# Altium footprint library RESISTOR.PcbLib: 31 footprints (part 2 of 2)
Each footprint in its own frame and in the unit in brackets; x right, y up, seen from the top. Pads: shape width x height; smd on the part's side, far side on the other; paste and mask are expansions set on the pad; w line width, h text height; cw(c..) or ccw(c..) is an arc to the next point about the centre after c.
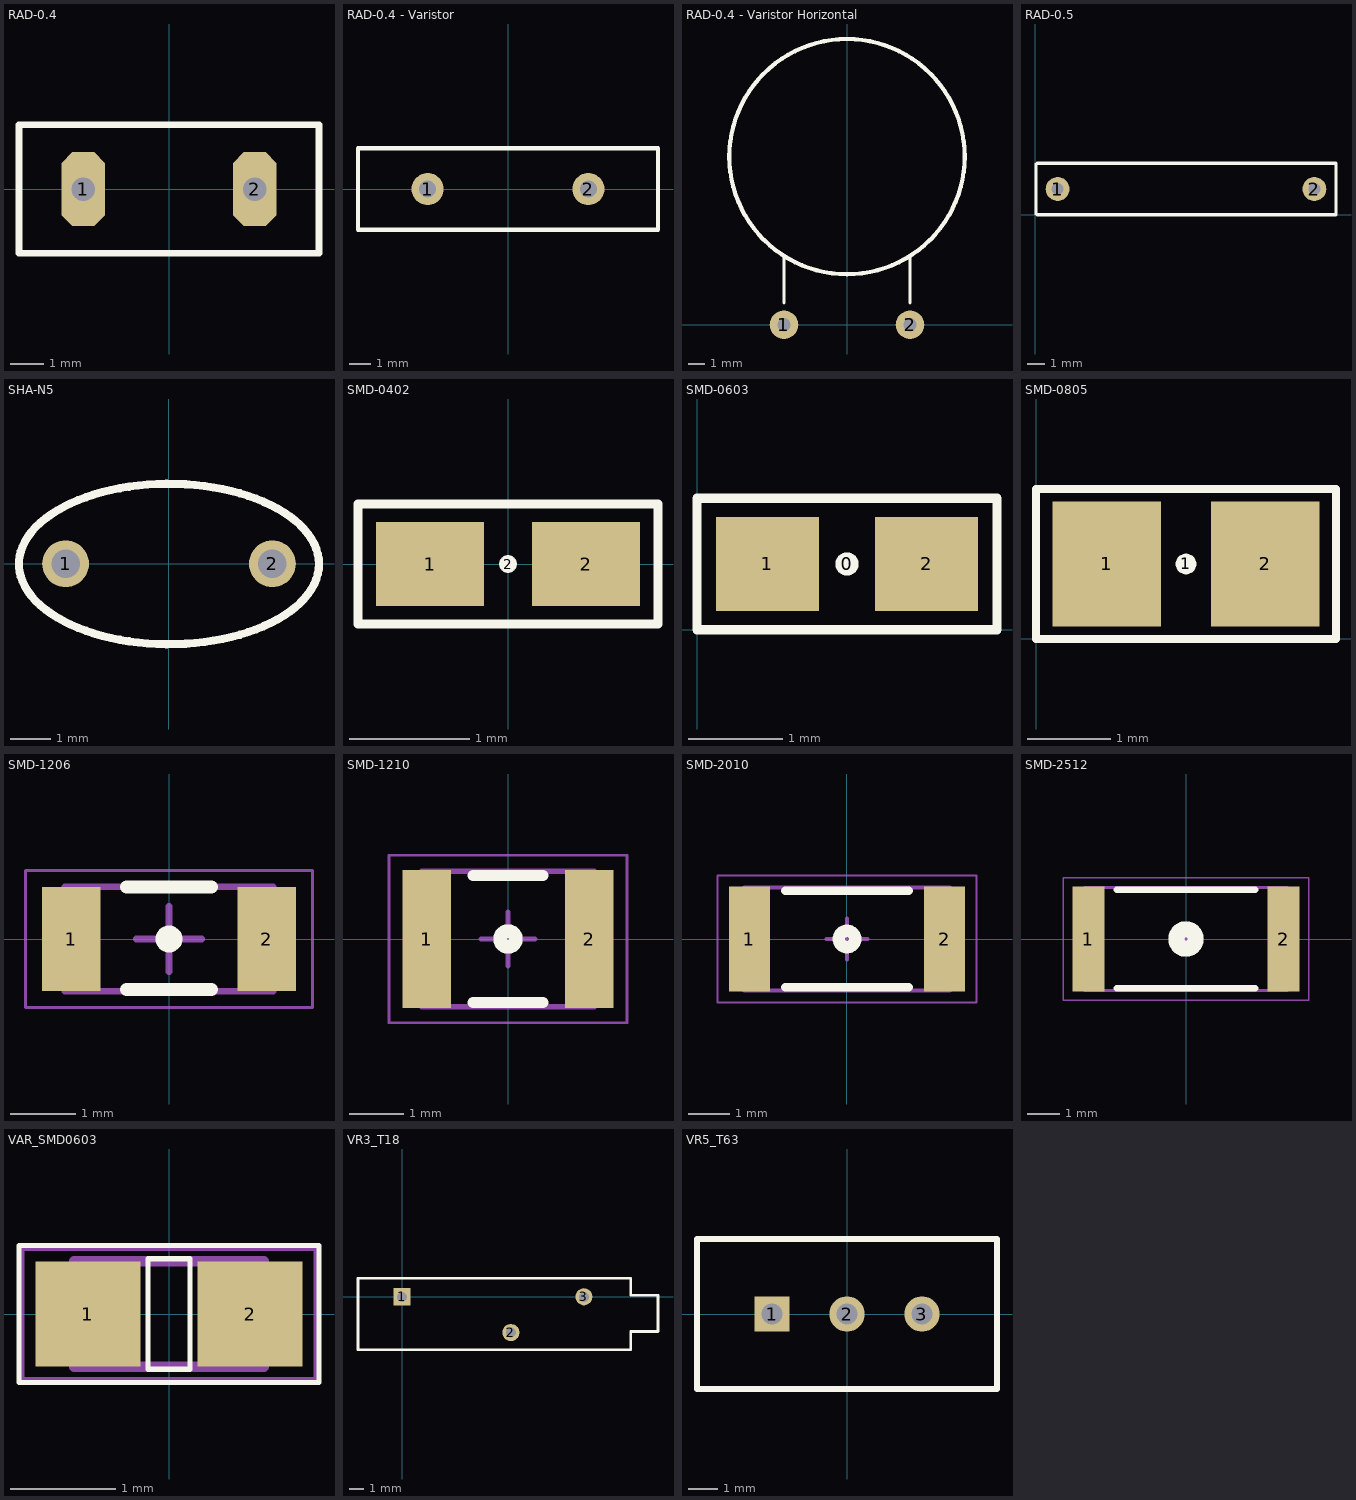
[diagram p1: the footprints below, top view; thin cyan lines are the x and y axes]

## RAD-0.4 [mm]
pads (2):
  oct 1.3x2.2 hole 0.7: 1(-2.54,0) 2(2.54,0)
Top Overlay:
  lines w0.2: -4.445,1.905 -4.445,-1.9 4.445,-1.9 4.445,1.905 -4.44,1.905

## RAD-0.4 - Varistor [mm]
pads (2):
  round 1.5 hole 0.8: 1(-3.75,0) 2(3.75,0)
Top Overlay:
  lines w0.2: -7,-1.9 -7,1.905 7,1.905 7,-1.9 -7,-1.9

## RAD-0.4 - Varistor Horizontal [mm]
pads (2):
  round 1.7 hole 0.8: 1(-3.75,0) 2(3.75,0)
Top Overlay:
  circle w0.254: c0,10 r7
  lines w0.203: -3.75,1.3 -3.75,4 ; 3.75,1.3 3.75,4

## RAD-0.5 [mm]
pads (2):
  round 1.4 hole 0.7: 1(1.3,1.5) 2(16.3,1.5)
Top Overlay:
  lines w0.2: 0.035,0.065 0.035,2.935 0.105,3.005 17.565,3.005 17.565,-0.005 0.105,-0.005 0.035,0.065

## SHA-N5 [mm] "Capacitor, Radial, Tantalum, Non-Polarised; Body 7.37 x 3.94 x 6.86 mm (WxTxH max); Pin Spacing 5.08 mm (typ)"
height 6.86
pads (2):
  round 1.15 hole 0.7: 1(-2.54,0) 2(2.54,0)
Top Overlay:
  lines w0.2: -3.684,-0.068 -3.684,0.057 -3.669,0.181 -3.639,0.305 -3.595,0.428 -3.536,0.549 -3.463,0.668 -3.377,0.784 -3.276,0.897 -3.162,1.006 -3.036,1.111 -2.897,1.212 -2.747,1.308 -2.586,1.398 -2.414,1.483 -2.232,1.562 -2.042,1.634 -1.843,1.7 -1.637,1.759 -1.424,1.811 -1.206,1.856 -0.983,1.893 -0.755,1.922 -0.525,1.944 -0.293,1.958 -0.059,1.964 0.175,1.962 0.408,1.952 0.639,1.934 0.868,1.909 1.094,1.875 1.314,1.834 1.53,1.786 1.74,1.731 1.942,1.668 2.137,1.599 2.323,1.523 2.5,1.441 2.666,1.354 2.822,1.26 2.967,1.162 3.099,1.059 3.219,0.952 3.327,0.841 3.42,0.726 3.5,0.609 3.566,0.489 3.618,0.367 3.655,0.244 3.677,0.119 3.684,-0.006 3.677,-0.131 3.655,-0.255 3.618,-0.379 3.566,-0.501 3.5,-0.621 3.42,-0.738 3.327,-0.853 3.219,-0.964 3.099,-1.071 2.967,-1.174 2.822,-1.272 2.666,-1.365 2.5,-1.453 2.323,-1.535 2.137,-1.611 1.942,-1.68 1.74,-1.742 1.53,-1.798 1.314,-1.846 1.094,-1.887 0.868,-1.92 0.639,-1.946 0.408,-1.964 0.175,-1.974 -0.059,-1.976 -0.293,-1.97 -0.525,-1.956 -0.755,-1.934 -0.983,-1.905 -1.206,-1.868 -1.424,-1.823 -1.637,-1.771 -1.843,-1.712 -2.042,-1.646 -2.232,-1.574 -2.414,-1.495 -2.586,-1.41 -2.747,-1.319 -2.897,-1.224 -3.036,-1.123 -3.162,-1.018 -3.276,-0.909 -3.377,-0.796 -3.463,-0.68 -3.536,-0.561 -3.595,-0.44 -3.639,-0.317 -3.669,-0.193 -3.684,-0.068

## SMD-0402 [mm] "Chip Resistor; Body 1 x 0.5 mm (LxW typ)"
height 0.4
pads (3):
  rect 0.9x0.7 smd: 1(-0.65,0) 2(0.65,0)
  round 0.15 on Top Overlay: 2(0,0)
Top Overlay:
  lines w0.075: -1.25,-0.5 1.25,-0.5 1.25,0.5 -1.25,0.5 -1.25,-0.5
3D body "User Library-CR1005-0402.STEP": height 0.35, standoff 0, extent -0.5,-0.25 0.5,0.25

## SMD-0603 [mm] "Chip Resistor; Body 1.6 x 0.8 mm (LxW typ)"
height 0.55
pads (3):
  round 0.25 on Top Overlay: 0(1.6,0.7)
  rect 1.1x1 smd: 1(0.75,0.7) 2(2.45,0.7)
Top Overlay:
  lines w0.1: 0,0 3.2,0 3.2,1.4 0,1.4 0,0
3D body "User Library-CR1608-0603.STEP": height 0.45, standoff 0, extent 0.825,0.3 2.425,1.1

## SMD-0805 [mm] "Chip Resistor; Body 2 x 1.3 mm (LxW typ)"
height 0.6
pads (3):
  rect 1.3x1.5 smd: 1(0.85,0.9) 2(2.75,0.9)
  round 0.25 on Top Overlay: 1(1.8,0.9)
Top Overlay:
  lines w0.1: 0,0 0,1.8 3.6,1.8 3.6,0 0,0
3D body "User Library-CR2012-0805.STEP": height 0.6, standoff 0, extent 0.825,0.25 2.825,1.5

## SMD-1206 [mm] "Chip Resistor, 2-Leads, Body 3,15x1,55mm, IPC Medium Density"
height 0.55
pads (2):
  rect 0.9x1.6 smd: 1(-1.5,0) 2(1.5,0)
Top Overlay:
  circle w0.254: c0,0 r0.079
  lines w0.2: -0.65,-0.775 0.65,-0.775 ; -0.65,0.8 0.65,0.8
Mechanical 13:
  lines w0.1: -1.6,-0.8 -1.6,0.8 1.6,0.8 1.6,-0.8 -1.6,-0.8
Mechanical 15:
  lines w0.05: -2.2,-1.05 -2.2,1.05 2.2,1.05 2.2,-1.05 -2.2,-1.05
  lines w0.1: -0.5,0 0.5,0 ; 0,-0.5 0,0.5
3D body "RES1206.step": height 0.55, standoff 0, extent -1.6,-0.8 1.6,0.8

## SMD-1210 [mm] "Chip Resistor, 2-Leads, Body 3,15x2,50mm, IPC Medium Density"
height 0.55
pads (2):
  rect 0.9x2.55 smd: 1(-1.5,0) 2(1.5,0)
Top Overlay:
  circle w0.254: c0,0 r0.146
  lines w0.2: -0.65,-1.175 0.65,-1.175 ; -0.65,1.175 0.65,1.175
Mechanical 13:
  lines w0.1: -1.6,-1.25 1.6,-1.25 1.6,1.25 -1.6,1.25 -1.6,-1.25
Mechanical 15:
  lines w0.05: -2.2,-1.55 2.2,-1.55 2.2,1.55 -2.2,1.55 -2.2,-1.55
  lines w0.1: -0.5,0 0.5,0 ; 0,-0.5 0,0.5
3D body "SMD-1210.step": height 0.55, standoff 0, extent -1.6,-1.25 1.6,1.25

## SMD-2010 [mm] "Chip Resistor, 2-Leads, Body 5,00x2,50mm, IPC Medium Density"
height 0.55
pads (2):
  rect 1x2.55 smd: 1(-2.375,0) 2(2.375,0)
Top Overlay:
  circle w0.3: c0,0 r0.2
  lines w0.2: -1.5,-1.175 1.5,-1.175 ; -1.5,1.175 1.5,1.175
Mechanical 13:
  lines w0.1: -2.5,-1.25 -2.5,1.25 2.5,1.25 2.5,-1.25 -2.5,-1.25
Mechanical 15:
  lines w0.05: -3.15,-1.55 -3.15,1.55 3.15,1.55 3.15,-1.55 -3.15,-1.55
  lines w0.1: -0.5,0 0.5,0 ; 0,-0.5 0,0.5
3D body "SMD-2010.step": height 0.55, standoff 0, extent -2.5,-1.25 2.5,1.25

## SMD-2512 [mm] "Chip Resistor, 2-Leads, Body 6,30x3,20mm, IPC Medium Density"
height 0.55
pads (2):
  rect 1x3.25 smd: 1(-3.025,0) 2(3.025,0)
Top Overlay:
  circle w0.5: c0,0 r0.3
  lines w0.2: -2.15,-1.525 2.15,-1.525 ; -2.15,1.525 2.15,1.525
Mechanical 13:
  lines w0.1: -3.15,-1.6 3.15,-1.6 3.15,1.6 -3.15,1.6 -3.15,-1.6
Mechanical 15:
  lines w0.05: -3.8,-1.9 3.8,-1.9 3.8,1.9 -3.8,1.9 -3.8,-1.9
  lines w0.1: -0.5,0 0.5,0 ; 0,-0.5 0,0.5
3D body "SMD-2512.step": height 0.55, standoff 0, extent -3.15,-1.6 3.15,1.6

## VAR_SMD0603 [mm] "VARISTOR SMD, 2-Leads, Body 1,60x0,80mm, IPC Medium Density"
height 0.45
pads (2):
  rect 1x1 smd: 1(-0.77,0) 2(0.77,0)
Top Overlay:
  lines w0.05: -1.425,-0.65 1.425,-0.65 1.425,0.65 -1.425,0.65 -1.425,-0.65 ; -0.2,-0.525 -0.2,0.525 0.2,0.525 0.2,-0.525 -0.2,-0.525
Mechanical 13:
  lines w0.1: -0.9,-0.5 0.9,-0.5 0.9,0.5 -0.9,0.5 -0.9,-0.5
Mechanical 15:
  lines w0.05: -1.4,-0.625 -1.4,0.625 1.4,0.625 1.4,-0.625 -1.4,-0.625
3D body "VAR_SMD0603.step": height 0.47, standoff 0.02, extent -0.9,-0.5 0.9,0.5

## VR3_T18 [mm] "Tapped Resistor; 3 Leads"
height 5.33
pads (3):
  rect 1.2x1.2 hole 0.7: 1(0,0)
  round 1.2 hole 0.7: 2(7.6,-2.5) 3(12.7,0)
Top Overlay:
  lines w0.2: 15.971,0.107 17.876,0.107 ; 15.971,0.107 17.876,0.107 ; 15.971,0.107 15.971,1.297 -3.079,1.297 -3.079,-3.703 15.971,-3.703 15.971,-2.433 17.876,-2.433 17.876,0.107
3D body "SW3dPS-bourns_3006p.STEP": height 6.68, standoff -4.88, extent -3.048,-3.429 17.526,1.397

## VR5_T63 [mm] "Potentiometer; 3 Leads"
height 5.33
pads (3):
  rect 1.2x1.2 hole 0.7: 1(-2.54,0)
  round 1.2 hole 0.7: 2(0,0) 3(2.54,0)
Top Overlay:
  lines w0.2: -5.08,-2.54 5.08,-2.54 5.08,2.54 -5.08,2.54 -5.08,-2.54
3D body "T63.STEP": height 12.26, standoff -5.24, extent -4.572,-2.286 4.628,2.514